# Altium footprint library optics.PcbLib: 67 footprints (part 1 of 5)
Each footprint in its own frame and in the unit in brackets; x right, y up, seen from the top. Pads: shape width x height; smd on the part's side, far side on the other; paste and mask are expansions set on the pad; w line width, h text height; cw(c..) or ccw(c..) is an arc to the next point about the centre after c.
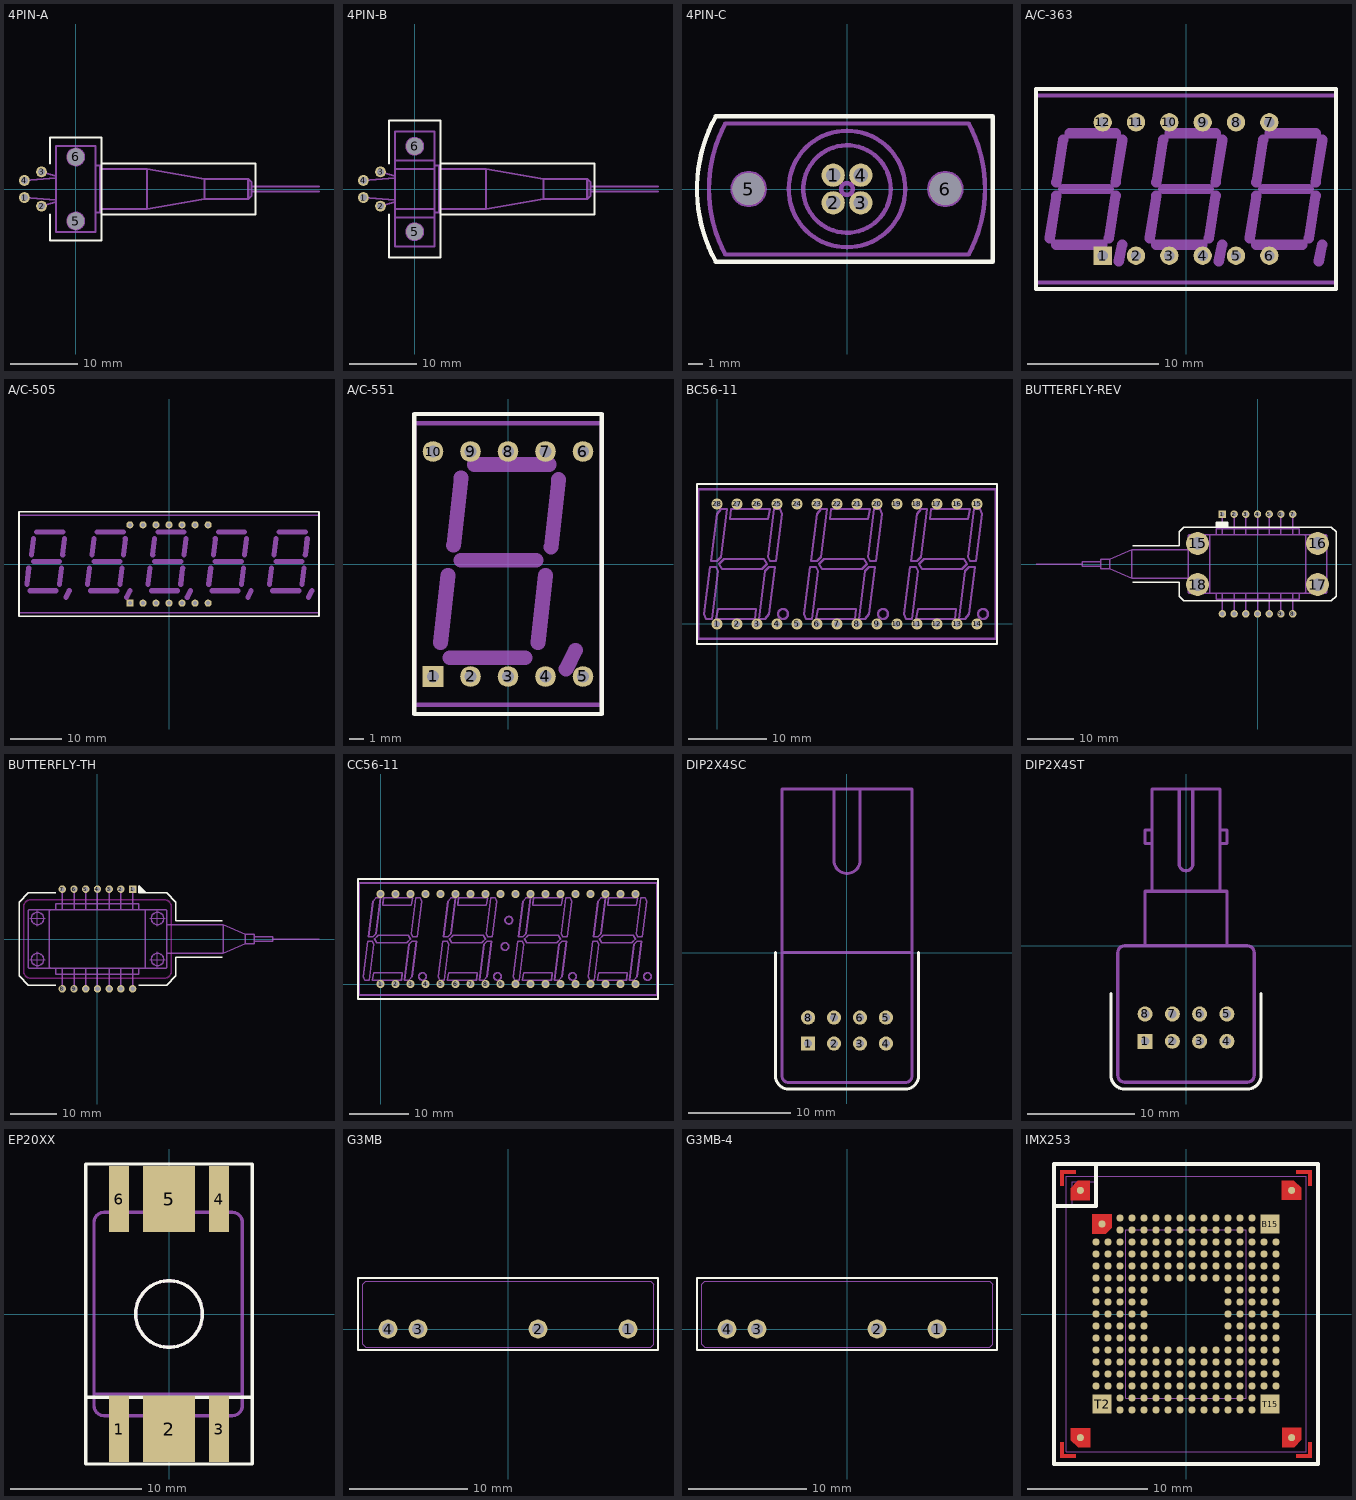
[diagram p0: the footprints below, top view; thin cyan lines are the x and y axes]

## 4PIN-A [mm]
pads (6):
  round 1.6 hole 1: 1(-7.62,-1.27) 2(-5.08,-2.54) 3(-5.08,2.54) 4(-7.62,1.27)
  round 2.5 hole 2.5 unplated: 5(0,-4.75) 6(0,4.75)
Top Overlay:
  lines w0.3: -3.81,-3.81 -3.81,-7.62 3.81,-7.62 3.81,7.62 -3.81,7.62 -3.81,3.81 ; 3.81,-3.81 26.67,-3.81 26.67,3.81 3.81,3.81
Mechanical 1:
  circle w0.3: c0,4.75 r1.25
  circle w0.3: c0,-4.75 r1.25
  lines w0.3: -7.62,-1.27 -2.921,-1.651 ; -7.62,1.27 -2.921,1.651 ; -5.08,-2.54 -2.921,-1.905 ; -5.08,2.54 -2.921,1.905 ; 2.9,-3.5 3.6,-3.5 3.6,3.5 2.9,3.5 ; 3.6,-3 10.6,-3 ; 3.6,3 10.6,3 ; 26.1,-0.4 36.1,-0.4 ; 26.1,0.4 36.1,0.4 ; 10.6,-3 19.1,-1.5 ; 10.6,-3 10.6,3 ; 10.6,3 19.1,1.5 ; 19.1,-1.5 25.6,-1.5 ; 19.1,-1.5 19.1,1.5 ; 19.1,1.5 25.6,1.5 ; 25.6,-1.5 25.6,1.5 ; 25.6,-1.5 26.1,-1 26.1,1 25.6,1.5 ; -2.9,-6.35 2.9,-6.35 2.9,6.35 -2.9,6.35 -2.9,-6.35

## 4PIN-B [mm]
pads (6):
  round 1.6 hole 1: 1(-7.62,-1.27) 2(-5.08,-2.54) 3(-5.08,2.54) 4(-7.62,1.27)
  round 2.5 hole 2.5 unplated: 5(0,-6.35) 6(0,6.35)
Top Overlay:
  lines w0.3: -3.81,-3.81 -3.81,-10.16 3.81,-10.16 3.81,10.16 -3.81,10.16 -3.81,3.81 ; 3.81,-3.81 26.67,-3.81 26.67,3.81 3.81,3.81
Mechanical 1:
  circle w0.3: c0,-6.35 r1.25
  circle w0.3: c0,6.35 r1.25
  lines w0.3: -7.62,-1.27 -2.921,-1.651 ; -7.62,1.27 -2.921,1.651 ; -5.08,-2.54 -2.921,-1.905 ; -5.08,2.54 -2.921,1.905 ; -2.9,-4.2 2.9,-4.2 ; -2.9,-3 2.9,-3 ; -2.9,3 2.9,3 ; -2.9,4.2 2.9,4.2 ; 2.9,-3.5 3.6,-3.5 3.6,3.5 2.9,3.5 ; 3.6,-3 10.6,-3 ; 3.6,3 10.6,3 ; 26.1,-0.4 36.1,-0.4 ; 26.1,0.4 36.1,0.4 ; 10.6,-3 10.6,3 ; 10.6,-3 19.1,-1.5 ; 10.6,3 19.1,1.5 ; 19.1,-1.5 19.1,1.5 ; 19.1,-1.5 25.6,-1.5 ; 19.1,1.5 25.6,1.5 ; 25.6,-1.5 26.1,-1 26.1,1 25.6,1.5 ; 25.6,-1.5 25.6,1.5 ; -2.9,-8.5 -2.9,8.5 2.9,8.5 2.9,-8.5 -2.9,-8.5

## 4PIN-C [mm]
pads (6):
  round 1.6 hole 1: 1(-0.95,0.95) 2(-0.95,-0.95) 3(0.95,-0.95) 4(0.95,0.95)
  round 2.2 hole 2.2 unplated: 5(-6.75,0) 6(6.75,0)
Top Overlay:
  lines w0.3: -9,-5 10,-5 10,5 -9,5 ; -8.996,-5.007 cw(c0,0) -8.996,5.007
Mechanical 1:
  circle w0.3: c0,0 r0.4
  circle w0.3: c-6.75,0 r1.1
  circle w0.3: c6.75,0 r1.1
  circle w0.3: c0,0 r3
  circle w0.3: c0,0 r4
  lines w0.3: -8.353,-4.494 cw(c0.1,0) -8.353,4.494 ; -8.35,-4.5 8.35,-4.5 ; -8.35,4.5 8.35,4.5 ; 8.353,-4.494 ccw(c-0.1,0) 8.353,4.494

## A/C-363 [mm]
pads (12):
  rect 1.4x1.4 hole 0.8: 1(-6.35,-5.08)
  round 1.4 hole 0.8: 2(-3.81,-5.08) 3(-1.27,-5.08) 4(1.27,-5.08) 5(3.81,-5.08) 6(6.35,-5.08) 7(6.35,5.08) 8(3.81,5.08) 9(1.27,5.08) 10(-1.27,5.08) 11(-3.81,5.08) 12(-6.35,5.08)
Top Overlay:
  lines w0.3: -11.43,-7.62 11.43,-7.62 11.43,7.62 -11.43,7.62 -11.43,-7.62
Mechanical 1:
  lines w0.3: -11.43,-7.112 11.43,-7.112 11.43,7.112 -11.43,7.112 -11.43,-7.112
  lines w0.8: -10.37,-3.75 -9.87,-0.5 ; -9.87,-4.25 -6.37,-4.25 ; -9.87,0.5 -9.37,3.75 ; -9.37,0 -5.87,0 ; -8.87,4.25 -5.37,4.25 ; -5.87,-3.75 -5.37,-0.5 ; -5.37,0.5 -4.87,3.75 ; -5.12,-5.5 -4.87,-4.25 ; -2.75,-3.75 -2.25,-0.5 ; -2.25,-4.25 1.25,-4.25 ; -2.25,0.5 -1.75,3.75 ; -1.75,0 1.75,0 ; -1.25,4.25 2.25,4.25 ; 1.75,-3.75 2.25,-0.5 ; 2.25,0.5 2.75,3.75 ; 2.5,-5.5 2.75,-4.25 ; 4.87,-3.75 5.37,-0.5 ; 5.37,-4.25 8.87,-4.25 ; 5.37,0.5 5.87,3.75 ; 5.87,0 9.37,0 ; 6.37,4.25 9.87,4.25 ; 9.37,-3.75 9.87,-0.5 ; 9.87,0.5 10.37,3.75 ; 10.12,-5.5 10.37,-4.25

## A/C-505 [mm]
pads (14):
  rect 1.4x1.4 hole 0.8: 1(-7.62,-7.62)
  round 1.4 hole 0.8: 2(-5.08,-7.62) 3(-2.54,-7.62) 4(0,-7.62) 5(2.54,-7.62) 6(5.08,-7.62) 7(7.62,-7.62) 8(7.62,7.62) 9(5.08,7.62) 10(2.54,7.62) 11(0,7.62) 12(-2.54,7.62) 13(-5.08,7.62) 14(-7.62,7.62)
Top Overlay:
  lines w0.3: -29.21,-10.16 -29.21,10.16 29.21,10.16 29.21,-10.16 -29.21,-10.16
Mechanical 1:
  lines w0.3: -29.21,-9.525 -29.21,9.525 29.21,9.525 29.21,-9.525 -29.21,-9.525
  lines w1: -27.686,-3.937 -27.305,-0.762 ; -27.051,-5.207 -21.971,-5.207 ; -26.797,1.778 -26.416,4.953 ; -26.416,0.508 -21.336,0.508 ; -25.781,6.223 -20.701,6.223 ; -21.336,-3.937 -20.955,-0.762 ; -20.701,1.778 -20.32,4.953 ; -20.066,-6.477 -19.431,-5.207 ; -15.875,-3.937 -15.494,-0.762 ; -15.24,-5.207 -10.16,-5.207 ; -14.986,1.778 -14.605,4.953 ; -14.605,0.508 -9.525,0.508 ; -13.97,6.223 -8.89,6.223 ; -9.525,-3.937 -9.144,-0.762 ; -8.89,1.778 -8.509,4.953 ; -8.255,-6.477 -7.62,-5.207 ; -4.064,-3.937 -3.683,-0.762 ; -3.429,-5.207 1.651,-5.207 ; -3.175,1.778 -2.794,4.953 ; -2.794,0.508 2.286,0.508 ; -2.159,6.223 2.921,6.223 ; 2.286,-3.937 2.667,-0.762 ; 2.921,1.778 3.302,4.953 ; 3.556,-6.477 4.191,-5.207 ; 7.747,-3.937 8.128,-0.762 ; 8.382,-5.207 13.462,-5.207 ; 8.636,1.778 9.017,4.953 ; 9.017,0.508 14.097,0.508 ; 9.652,6.223 14.732,6.223 ; 14.097,-3.937 14.478,-0.762 ; 14.732,1.778 15.113,4.953 ; 15.367,-6.477 16.002,-5.207 ; 19.558,-3.937 19.939,-0.762 ; 20.193,-5.207 25.273,-5.207 ; 20.447,1.778 20.828,4.953 ; 20.828,0.508 25.908,0.508 ; 21.463,6.223 26.543,6.223 ; 25.908,-3.937 26.289,-0.762 ; 26.543,1.778 26.924,4.953 ; 27.178,-6.477 27.813,-5.207

## A/C-551 [mm]
height 8
pads (10):
  rect 1.4x1.4 hole 0.8: 1(-5.08,-7.62)
  round 1.4 hole 0.8: 2(-2.54,-7.62) 3(0,-7.62) 4(2.54,-7.62) 5(5.08,-7.62) 6(5.08,7.62) 7(2.54,7.62) 8(0,7.62) 9(-2.54,7.62) 10(-5.08,7.62)
Top Overlay:
  lines w0.3: -6.35,-10.16 6.35,-10.16 6.35,10.16 -6.35,10.16 -6.35,-10.16
Mechanical 1:
  lines w0.3: 6.35,-9.525 -6.35,-9.525 -6.35,9.525 6.35,9.525 ; 6.35,-9.525 6.35,9.525 ; 6.35,-9.525 6.35,9.525
  lines w1: -4.572,-5.334 -4.064,-0.762 ; -3.937,-6.35 1.143,-6.35 ; -3.683,1.27 -3.175,5.842 ; -3.175,0.254 1.905,0.254 ; -2.286,6.731 2.794,6.731 ; 2.032,-5.334 2.54,-0.762 ; 2.921,1.143 3.429,5.715 ; 3.937,-7.112 4.572,-5.842
3D body: height 8, standoff 0.5, extent -6.35,-9.906 6.35,9.398

## BC56-11 [mm]
pads (28):
  round 1.4 hole 0.8: 1(0,0) 2(2.54,0) 3(5.08,0) 4(7.62,0) 5(10.16,0) 6(12.7,0) 7(15.24,0) 8(17.78,0) 9(20.32,0) 10(22.86,0) 11(25.4,0) 12(27.94,0) 13(30.48,0) 14(33.02,0) 15(33.02,15.24) 16(30.48,15.24) 17(27.94,15.24) 18(25.4,15.24) 19(22.86,15.24) 20(20.32,15.24) 21(17.78,15.24) 22(15.24,15.24) 23(12.7,15.24) 24(10.16,15.24) 25(7.62,15.24) 26(5.08,15.24) 27(2.54,15.24) 28(0,15.24)
Top Overlay:
  lines w0.3: -2.54,-2.54 35.56,-2.54 35.56,17.78 -2.54,17.78 -2.54,-2.54
Mechanical 1:
  circle w0.3: c33.782,1.27 r0.635
  circle w0.3: c21.082,1.27 r0.635
  circle w0.3: c8.382,1.27 r0.635
  lines w0.3: -2.39,-1.88 35.41,-1.88 35.41,17.12 -2.39,17.12 -2.39,-1.88 ; -1.651,1.27 -0.889,7.239 -0.127,7.239 0.127,6.731 -0.635,0.635 -1.397,0.635 -1.651,1.27 ; -0.762,8.001 0,13.97 0.508,14.605 1.27,14.605 0.508,8.509 0,8.001 -0.762,8.001 ; -0.127,0.635 4.826,0.635 4.953,1.905 0.127,1.905 -0.127,0.635 ; 0.254,7.62 0.635,6.985 5.715,6.985 6.35,7.62 5.969,8.255 0.889,8.255 0.254,7.62 ; 1.651,13.335 6.477,13.335 6.731,14.605 1.778,14.605 1.651,13.335 ; 5.334,0.635 6.096,6.731 6.604,7.239 7.366,7.239 6.604,1.27 6.096,0.635 5.334,0.635 ; 6.477,8.509 7.239,14.605 8.001,14.605 8.255,13.97 7.493,8.001 6.731,8.001 6.477,8.509 ; 11.049,1.27 11.811,7.239 12.573,7.239 12.827,6.731 12.065,0.635 11.303,0.635 11.049,1.27 ; 11.938,8.001 12.7,13.97 13.208,14.605 13.97,14.605 13.208,8.509 12.7,8.001 11.938,8.001 ; 12.573,0.635 17.526,0.635 17.653,1.905 12.827,1.905 12.573,0.635 ; 12.954,7.62 13.335,6.985 18.415,6.985 19.05,7.62 18.669,8.255 13.589,8.255 12.954,7.62 ; 14.351,13.335 19.177,13.335 19.431,14.605 14.478,14.605 14.351,13.335 ; 18.034,0.635 18.796,6.731 19.304,7.239 20.066,7.239 19.304,1.27 18.796,0.635 18.034,0.635 ; 19.177,8.509 19.939,14.605 20.701,14.605 20.955,13.97 20.193,8.001 19.431,8.001 19.177,8.509 ; 23.749,1.27 24.511,7.239 25.273,7.239 25.527,6.731 24.765,0.635 24.003,0.635 23.749,1.27 ; 24.638,8.001 25.4,13.97 25.908,14.605 26.67,14.605 25.908,8.509 25.4,8.001 24.638,8.001 ; 25.273,0.635 30.226,0.635 30.353,1.905 25.527,1.905 25.273,0.635 ; 25.654,7.62 26.035,6.985 31.115,6.985 31.75,7.62 31.369,8.255 26.289,8.255 25.654,7.62 ; 27.051,13.335 31.877,13.335 32.131,14.605 27.178,14.605 27.051,13.335 ; 30.734,0.635 31.496,6.731 32.004,7.239 32.766,7.239 32.004,1.27 31.496,0.635 30.734,0.635 ; 31.877,8.509 32.639,14.605 33.401,14.605 33.655,13.97 32.893,8.001 32.131,8.001 31.877,8.509

## BUTTERFLY-REV [mm]
pads (18):
  rect 1.6x1.6 hole 1: 1(-7.62,10.795)
  round 1.6 hole 1: 2(-5.08,10.795) 3(-2.54,10.795) 4(0,10.795) 5(2.54,10.795) 6(5.08,10.795) 7(7.62,10.795) 8(7.62,-10.795) 9(5.08,-10.795) 10(2.54,-10.795) 11(0,-10.795) 12(-2.54,-10.795) 13(-5.08,-10.795) 14(-7.62,-10.795)
  round 5 hole 2.7 unplated: 15(-13,4.45) 16(13,4.45) 17(13,-4.45) 18(-13,-4.45)
Top Overlay:
  lines w0.3: -27,-4 -17,-4 -17,-7 -16,-8 16,-8 17,-7 17,7 16,8 -16,8 -17,7 -17,4 -27,4 ; -9,8 -9,9 -6.5,9 -6.5,8 ; -9,8.2 -6.5,8.2 ; -9,8.4 -6.5,8.4 ; -9,8.6 -6.5,8.6 ; -9,8.8 -6.5,8.8
Mechanical 1:
  circle w0.3: c-13,4.45 r1.35
  circle w0.3: c-13,-4.45 r1.35
  circle w0.3: c13,4.45 r1.35
  circle w0.3: c13,-4.45 r1.35
  lines w0.3: -48,0 -38,0 ; -34,-0.45 -38,-0.45 -38,0.45 -34,0.45 ; -15,-3.1 -27.3,-3.1 ; -15,3.1 -27.3,3.1 ; -10.1,-6.35 cw(c-10.1,-6.05) -10.4,-6.05 -10.4,6.05 cw(c-10.1,6.05) -10.1,6.35 ; -9,-6.35 -9,-7.6 9,-7.6 9,-6.35 ; -9,6.35 -9,7.6 9,7.6 9,6.35 ; -7.62,-10.795 -7.62,-6.35 ; -7.62,6.35 -7.62,10.795 ; -5.08,-10.795 -5.08,-6.35 ; -5.08,6.35 -5.08,10.795 ; -2.54,-10.795 -2.54,-6.35 ; -2.54,6.35 -2.54,10.795 ; 0,-10.795 0,-6.35 ; 0,6.35 0,10.795 ; 2.54,-10.795 2.54,-6.35 ; 2.54,6.35 2.54,10.795 ; 5.08,-10.795 5.08,-6.35 ; 5.08,6.35 5.08,10.795 ; 7.62,-10.795 7.62,-6.35 ; 7.62,6.35 7.62,10.795 ; 10.1,-6.35 ccw(c10.1,-6.05) 10.4,-6.05 10.4,6.05 ccw(c10.1,6.05) 10.1,6.35 ; -32,-1 -27.3,-3.1 ; -32,-1 -32,1 ; -32,-1 -34,-1 -34,1 -32,1 ; -32,1 -27.3,3.1 ; -27.3,-3.1 -27.3,3.1 ; -15,-6.05 ccw(c-14.7,-6.05) -14.7,-6.35 14.7,-6.35 ccw(c14.7,-6.05) 15,-6.05 15,6.05 ccw(c14.7,6.05) 14.7,6.35 -14.7,6.35 ccw(c-14.7,6.05) -15,6.05 -15,-6.05

## BUTTERFLY-TH [mm]
pads (14):
  rect 1.6x1.6 hole 1: 1(7.62,10.795)
  round 1.6 hole 1: 2(5.08,10.795) 3(2.54,10.795) 4(0,10.795) 5(-2.54,10.795) 6(-5.08,10.795) 7(-7.62,10.795) 8(-7.62,-10.795) 9(-5.08,-10.795) 10(-2.54,-10.795) 11(0,-10.795) 12(2.54,-10.795) 13(5.08,-10.795) 14(7.62,-10.795)
Top Overlay:
  lines w0.3: -9,-10 -15,-10 -17,-8 -17,8 -15,10 -9,10 ; 9,-10 15,-10 17,-8 17,-4 27,-4 ; 9.2,10 9.2,11.3 ; 9.4,10 9.4,11.1 ; 9.6,10.1 9.6,10.9 ; 9.8,10 9.8,10.7 ; 10,10 10,10.5 ; 10.5,10 9,11.5 9,10 15,10 17,8 17,4 27,4
Keep-Out Layer:
  lines w0.3: -16,-7 ccw(c-14.5,-7) -14.5,-8.5 14.5,-8.5 ccw(c14.5,-7) 16,-7 16,7 ccw(c14.5,7) 14.5,8.5 -14.5,8.5 ccw(c-14.5,7) -16,7 -16,-7
Mechanical 1:
  circle w0.3: c13,4.45 r1.35
  circle w0.3: c13,-4.45 r1.35
  circle w0.3: c-13,4.45 r1.35
  circle w0.3: c-13,-4.45 r1.35
  lines w0.1: -14.7,-4.45 -11.3,-4.45 ; -14.7,4.45 -11.3,4.45 ; -13,-6.15 -13,-2.75 ; -13,2.75 -13,6.15 ; 11.3,-4.45 14.7,-4.45 ; 11.3,4.45 14.7,4.45 ; 13,-6.15 13,-2.75 ; 13,2.75 13,6.15
  lines w0.3: -10.1,-6.35 cw(c-10.1,-6.05) -10.4,-6.05 -10.4,6.05 cw(c-10.1,6.05) -10.1,6.35 ; -9,-6.35 -9,-7.6 9,-7.6 9,-6.35 ; -9,6.35 -9,7.6 9,7.6 9,6.35 ; -7.62,-10.795 -7.62,-6.35 ; -7.62,6.35 -7.62,10.795 ; -5.08,-10.795 -5.08,-6.35 ; -5.08,6.35 -5.08,10.795 ; -2.54,-10.795 -2.54,-6.35 ; -2.54,6.35 -2.54,10.795 ; 0,-10.795 0,-6.35 ; 0,6.35 0,10.795 ; 2.54,-10.795 2.54,-6.35 ; 2.54,6.35 2.54,10.795 ; 5.08,-10.795 5.08,-6.35 ; 5.08,6.35 5.08,10.795 ; 7.62,-10.795 7.62,-6.35 ; 7.62,6.35 7.62,10.795 ; 10.1,-6.35 ccw(c10.1,-6.05) 10.4,-6.05 10.4,6.05 ccw(c10.1,6.05) 10.1,6.35 ; 15,-3.1 27.3,-3.1 ; 15,3.1 27.3,3.1 ; 34,-0.45 38,-0.45 38,0.45 34,0.45 ; 38,0 48,0 ; 27.3,-3.1 27.3,3.1 ; 27.3,-3.1 32,-1 ; 27.3,3.1 32,1 ; 32,-1 34,-1 34,1 32,1 ; 32,-1 32,1 ; -15,-6.05 ccw(c-14.7,-6.05) -14.7,-6.35 14.7,-6.35 ccw(c14.7,-6.05) 15,-6.05 15,6.05 ccw(c14.7,6.05) 14.7,6.35 -14.7,6.35 ccw(c-14.7,6.05) -15,6.05 -15,-6.05

## CC56-11 [mm]
pads (36):
  round 1.4 hole 0.8: 1(0,0) 2(2.54,0) 3(5.08,0) 4(7.62,0) 5(10.16,0) 6(12.7,0) 7(15.24,0) 8(17.78,0) 9(20.32,0) 10(22.86,0) 11(25.4,0) 12(27.94,0) 13(30.48,0) 14(33.02,0) 15(35.56,0) 16(38.1,0) 17(40.64,0) 18(43.18,0) 19(43.18,15.24) 20(40.64,15.24) 21(38.1,15.24) 22(35.56,15.24) 23(33.02,15.24) 24(30.48,15.24) 25(27.94,15.24) 26(25.4,15.24) 27(22.86,15.24) 28(20.32,15.24) 29(17.78,15.24) 30(15.24,15.24) 31(12.7,15.24) 32(10.16,15.24) 33(7.62,15.24) 34(5.08,15.24) 35(2.54,15.24) 36(0,15.24)
Top Overlay:
  lines w0.3: -3.81,-2.54 -3.81,17.78 46.99,17.78 46.99,-2.54 -3.81,-2.54
Mechanical 1:
  drawing of 162 lines, arcs and shapes, not listed

## DIP2X4SC [mm]
pads (8):
  rect 1.4x1.4 hole 0.8: 1(-3.81,-8.89)
  round 1.4 hole 0.8: 2(-1.27,-8.89) 3(1.27,-8.89) 4(3.81,-8.89) 5(3.81,-6.35) 6(1.27,-6.35) 7(-1.27,-6.35) 8(-3.81,-6.35)
Top Overlay:
  lines w0.3: -6.985,0 -6.985,-12.065 ccw(c-5.715,-12.065) -5.715,-13.335 5.715,-13.335 ccw(c5.715,-12.065) 6.985,-12.065 6.985,0
Mechanical 1:
  lines w0.3: -6.35,0 6.35,0 ; -1.27,16.002 -1.27,9.017 ccw(c0,9.017) 1.27,9.017 1.27,16.002 ; -6.35,-12.065 ccw(c-5.715,-12.065) -5.715,-12.7 5.715,-12.7 ccw(c5.715,-12.065) 6.35,-12.065 6.35,16.002 -6.35,16.002 -6.35,-12.065

## DIP2X4ST [mm]
pads (8):
  rect 1.4x1.4 hole 0.8: 1(-3.81,-8.89)
  round 1.4 hole 0.8: 2(-1.27,-8.89) 3(1.27,-8.89) 4(3.81,-8.89) 5(3.81,-6.35) 6(1.27,-6.35) 7(-1.27,-6.35) 8(-3.81,-6.35)
Top Overlay:
  lines w0.3: -6.985,-4.445 -6.985,-12.065 ccw(c-5.715,-12.065) -5.715,-13.335 5.715,-13.335 ccw(c5.715,-12.065) 6.985,-12.065 6.985,-4.445
Mechanical 1:
  lines w0.3: -3.81,0 -3.81,5.08 3.81,5.08 3.81,0 ; -3.175,5.08 -3.175,14.605 3.175,14.605 3.175,5.08 ; -3.175,9.525 -3.81,9.525 -3.81,10.795 -3.175,10.795 ; -0.635,14.605 -0.635,7.62 ccw(c0,7.62) 0.635,7.62 0.635,14.605 ; 3.175,9.525 3.81,9.525 3.81,10.795 3.175,10.795 ; -6.35,-12.065 ccw(c-5.715,-12.065) -5.715,-12.7 5.715,-12.7 ccw(c5.715,-12.065) 6.35,-12.065 6.35,-0.635 ccw(c5.715,-0.635) 5.715,0 -5.715,0 ccw(c-5.715,-0.635) -6.35,-0.635 -6.35,-12.065

## EP20XX [mm]
pads (6):
  rect 1.5x5 smd: 1(-3.81,-8.763) 3(3.81,-8.763) 4(3.81,8.763) 6(-3.81,8.763)
  rect 4x5 smd: 2(0,-8.763) 5(0,8.763)
Top Overlay:
  circle w0.254: c0,0 r2.54
  lines w0.254: -6.35,-6.35 6.35,-6.35 ; -6.35,-11.43 6.35,-11.43 6.35,11.43 -6.35,11.43 -6.35,-11.43
Mechanical 1:
  circle w0.254: c0,0 r2.54
  lines w0.254: -5.715,-6.096 5.588,-6.096 ; -4.191,-7.747 -4.191,-9.906 -3.429,-9.906 -3.429,-7.747 ; -4.191,7.747 -4.191,9.906 -3.429,9.906 -3.429,7.747 ; -1.397,-7.747 -1.397,-10.414 1.397,-10.414 1.397,-7.747 ; -1.397,7.747 -1.397,10.414 1.397,10.414 1.397,7.747 ; 3.429,-7.747 3.429,-9.906 4.191,-9.906 4.191,-7.747 ; 3.429,7.747 3.429,9.906 4.191,9.906 4.191,7.747 ; 5.588,-0.508 5.588,6.985 ccw(c4.826,6.985) 4.826,7.747 -0.254,7.747 -4.953,7.747 ccw(c-4.953,6.985) -5.715,6.985 -5.715,0.254 -5.715,-6.985 ccw(c-4.953,-6.985) -4.953,-7.747 0.254,-7.747 4.826,-7.747 ccw(c4.826,-6.985) 5.588,-6.985 5.588,-0.254

## G3MB [mm]
height 20.5
pads (4):
  round 1.6 hole 1: 1(10.16,0) 2(2.54,0) 3(-7.62,0) 4(-10.16,0)
Top Overlay:
  lines w0.15: -12.7,-1.778 -12.7,4.318 12.7,4.318 12.7,-1.778 -12.7,-1.778
Mechanical 1:
  lines w0.1: -12.319,-1.27 -12.065,-1.524 12.065,-1.524 12.319,-1.27 12.319,3.81 12.065,4.064 -12.065,4.064 -12.319,3.81 -12.319,-1.27
3D body: height 1, standoff -3.9, extent 9.779,-0.191 10.541,0.19
3D body: height 1, standoff -3.9, extent 2.159,-0.191 2.921,0.19
3D body: height 1, standoff -3.9, extent -8.001,-0.191 -7.239,0.19
3D body: height 1, standoff -3.9, extent -10.541,-0.191 -9.779,0.19
3D body: height 20.5, standoff 0.1, extent -12.319,-1.524 12.319,4.064

## G3MB-4 [mm]
height 20.5
pads (4):
  round 1.6 hole 1: 1(7.62,0) 2(2.54,0) 3(-7.62,0) 4(-10.16,0)
Top Overlay:
  lines w0.15: -12.7,-1.778 -12.7,4.318 12.7,4.318 12.7,-1.778 -12.7,-1.778
Mechanical 1:
  lines w0.1: -12.319,-1.27 -12.065,-1.524 12.065,-1.524 12.319,-1.27 12.319,3.81 12.065,4.064 -12.065,4.064 -12.319,3.81 -12.319,-1.27
3D body: height 1, standoff -3.9, extent 7.239,-0.191 8.001,0.19
3D body: height 1, standoff -3.9, extent 2.159,-0.191 2.921,0.19
3D body: height 1, standoff -3.9, extent -8.001,-0.191 -7.239,0.19
3D body: height 1, standoff -3.9, extent -10.541,-0.191 -9.779,0.19
3D body: height 20.5, standoff 0.1, extent -12.319,-1.524 12.319,4.064

## IMX253 [mm]
height 2.4
pads (234):
  round 0.6 smd: A1(-8.8,10.3) A3(-5.5,8) A4(-4.5,8) A5(-3.5,8) A6(-2.5,8) A7(-1.5,8) A8(-0.5,8) A9(0.5,8) A10(1.5,8) A11(2.5,8) A12(3.5,8) A13(4.5,8) A14(5.5,8) A16(8.8,10.3) B2(-7,7.5) B3(-5.5,7) B4(-4.5,7) B5(-3.5,7) B6(-2.5,7) B7(-1.5,7) B8(-0.5,7) B9(0.5,7) B10(1.5,7) B11(2.5,7) B12(3.5,7) B13(4.5,7) B14(5.5,7) C1(-7.5,6) C2(-6.5,6) C3(-5.5,6) C4(-4.5,6) C5(-3.5,6) C6(-2.5,6) C7(-1.5,6) C8(-0.5,6) C9(0.5,6) C10(1.5,6) C11(2.5,6) C12(3.5,6) C13(4.5,6) C14(5.5,6) C15(6.5,6) C16(7.5,6) D1(-7.5,5) D2(-6.5,5) D3(-5.5,5) D4(-4.5,5) D5(-3.5,5) D6(-2.5,5) D7(-1.5,5) D8(-0.5,5) D9(0.5,5) D10(1.5,5) D11(2.5,5) D12(3.5,5) D13(4.5,5) D14(5.5,5) D15(6.5,5) D16(7.5,5) E1(-7.5,4) E2(-6.5,4) E3(-5.5,4) E4(-4.5,4) E5(-3.5,4) E6(-2.5,4) E7(-1.5,4) E8(-0.5,4) E9(0.5,4) E10(1.5,4) E11(2.5,4) E12(3.5,4) E13(4.5,4) E14(5.5,4) E15(6.5,4) E16(7.5,4) F1(-7.5,3) F2(-6.5,3) F3(-5.5,3) F4(-4.5,3) F5(-3.5,3) F6(-2.5,3) F7(-1.5,3) F8(-0.5,3) F9(0.5,3) F10(1.5,3) F11(2.5,3) F12(3.5,3) F13(4.5,3) F14(5.5,3) F15(6.5,3) F16(7.5,3) G1(-7.5,2) G2(-6.5,2) G3(-5.5,2) G4(-4.5,2) G5(-3.5,2) G12(3.5,2) G13(4.5,2) G14(5.5,2) G15(6.5,2) G16(7.5,2) H1(-7.5,1) H2(-6.5,1) H3(-5.5,1) H4(-4.5,1) H5(-3.5,1) H12(3.5,1) H13(4.5,1) H14(5.5,1) H15(6.5,1) H16(7.5,1) J1(-7.5,0) J2(-6.5,0) J3(-5.5,0) J4(-4.5,0) J5(-3.5,0) J12(3.5,0) J13(4.5,0) J14(5.5,0) J15(6.5,0) J16(7.5,0) K1(-7.5,-1) K2(-6.5,-1) K3(-5.5,-1) K4(-4.5,-1) K5(-3.5,-1) K12(3.5,-1) K13(4.5,-1) K14(5.5,-1) K15(6.5,-1) K16(7.5,-1) L1(-7.5,-2) L2(-6.5,-2) L3(-5.5,-2) L4(-4.5,-2) L5(-3.5,-2) L12(3.5,-2) L13(4.5,-2) L14(5.5,-2) L15(6.5,-2) L16(7.5,-2) M1(-7.5,-3) M2(-6.5,-3) M3(-5.5,-3) M4(-4.5,-3) M5(-3.5,-3) M6(-2.5,-3) M7(-1.5,-3) M8(-0.5,-3) M9(0.5,-3) M10(1.5,-3) M11(2.5,-3) M12(3.5,-3) M13(4.5,-3) M14(5.5,-3) M15(6.5,-3) M16(7.5,-3) N1(-7.5,-4) N2(-6.5,-4) N3(-5.5,-4) N4(-4.5,-4) N5(-3.5,-4) N6(-2.5,-4) N7(-1.5,-4) N8(-0.5,-4) N9(0.5,-4) N10(1.5,-4) N11(2.5,-4) N12(3.5,-4) N13(4.5,-4) N14(5.5,-4) N15(6.5,-4) N16(7.5,-4) P1(-7.5,-5) P2(-6.5,-5) P3(-5.5,-5) P4(-4.5,-5) P5(-3.5,-5) P6(-2.5,-5) P7(-1.5,-5) P8(-0.5,-5) P9(0.5,-5) P10(1.5,-5) P11(2.5,-5) P12(3.5,-5) P13(4.5,-5) P14(5.5,-5) P15(6.5,-5) P16(7.5,-5) R1(-7.5,-6) R2(-6.5,-6) R3(-5.5,-6) R4(-4.5,-6) R5(-3.5,-6) R6(-2.5,-6) R7(-1.5,-6) R8(-0.5,-6) R9(0.5,-6) R10(1.5,-6) R11(2.5,-6) R12(3.5,-6) R13(4.5,-6) R14(5.5,-6) R15(6.5,-6) R16(7.5,-6) T3(-5.5,-7) T4(-4.5,-7) T5(-3.5,-7) T6(-2.5,-7) T7(-1.5,-7) T8(-0.5,-7) T9(0.5,-7) T10(1.5,-7) T11(2.5,-7) T12(3.5,-7) T13(4.5,-7) T14(5.5,-7) U1(-8.8,-10.3) U3(-5.5,-8) U4(-4.5,-8) U5(-3.5,-8) U6(-2.5,-8) U7(-1.5,-8) U8(-0.5,-8) U9(0.5,-8) U10(1.5,-8) U11(2.5,-8) U12(3.5,-8) U13(4.5,-8) U14(5.5,-8) U16(8.8,-10.3)
  rect 1.6x1.6 smd: B15(7,7.5) T2(-7,-7.5) T15(7,-7.5)
Top Layer:
  region: -9.2,-11.7 -9.2,-12 -10.5,-12 -10.5,-10.7 -10.2,-10.7 -10.2,-11.7
  region: 10.2,-10.7 10.5,-10.7 10.5,-12 9.2,-12 9.2,-11.7 10.2,-11.7
  region: 9.2,11.7 9.2,12 10.5,12 10.5,10.7 10.2,10.7 10.2,11.7
  region: -10.2,10.7 -10.5,10.7 -10.5,12 -9.2,12 -9.2,11.7 -10.2,11.7
  region: -6.7,6.7 -7.8,6.7 -7.8,8.3 -6.2,8.3 -6.2,7.2
  region: 9.6,10.5 9.6,9.5 8,9.5 8,11.1 9,11.1
  region: 9,-11.1 8,-11.1 8,-9.5 9.6,-9.5 9.6,-10.5
  region: -9.6,-10.5 -9.6,-9.5 -8,-9.5 -8,-11.1 -9,-11.1
  region: -9,11.1 -8,11.1 -8,9.5 -9.6,9.5 -9.6,10.5
Top Overlay:
  lines w0.3: -11,9 -7.5,9 -7.5,12.5 ; -11,-12.5 -11,12.5 11,12.5 11,-12.5 -11,-12.5
Mechanical 1:
  lines w0.1: -10,-11.5 10,-11.5 10,11.5 -10,11.5 -10,-11.5 ; -9.5,9 -7.5,9 -7.5,11 -9.5,11 -9.5,9 ; -5.025,-7 5.025,-7 5.025,7 -5.025,7 -5.025,-7
3D body: height 2.22, standoff 0.1, extent -10,-11.5 10,11.5